# EAGLE library part BC856BDW1T1G (library transistor-pnp)
Dual PNP Transistor
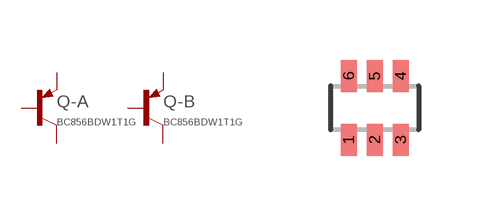
[diagram p0: symbol with the pads of SOT363; footprint SOT363]

Designator prefix Q; gates -A=PNP -B=PNP

## BC856BDW1T1G (DIGIKEY: DMN3404LDICT-ND; P1I: o)  [SOT363]
1  -B:E  pas
2  -B:B  pas
3  -A:C  pas
4  -A:E  pas
5  -A:B  pas
6  -B:C  pas

## Footprint SOT363 (pad centres in mm)
Small Outline Transistor; 6 leads
smd 0.4 x 0.8: 1 -0.65,-0.8; 2 0,-0.8; 3 0.65,-0.8; 4 0.65,0.8; 5 0,0.8; 6 -0.65,0.8